# Altium footprint library MPXV1D1250.PcbLib: 1 footprints
Each footprint in its own frame and in the unit in brackets; x right, y up, seen from the top. Pads: shape width x height; smd on the part's side, far side on the other; paste and mask are expansions set on the pad; w line width, h text height; cw(c..) or ccw(c..) is an arc to the next point about the centre after c.
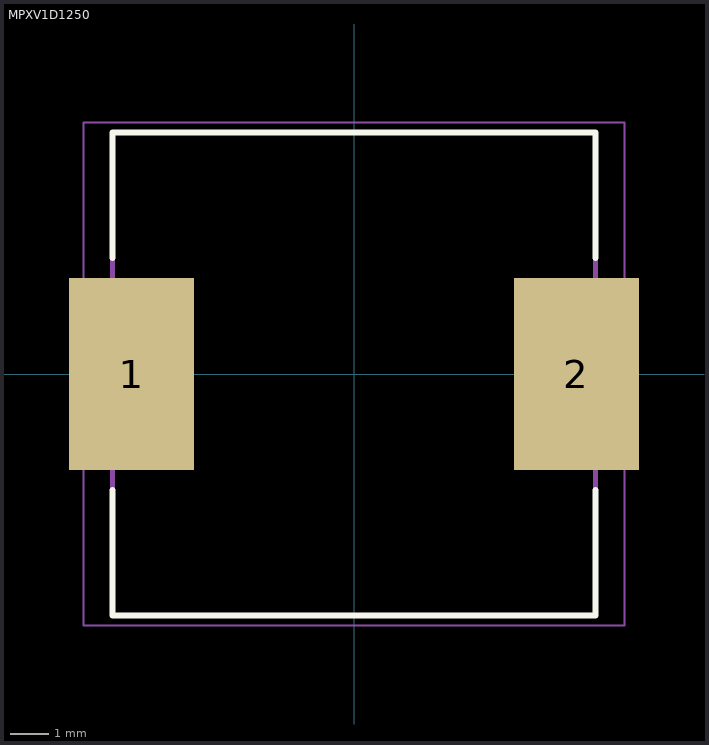
[diagram p0: the footprint, top view; thin cyan lines are the x and y axes]

## MPXV1D1250 [mil]
pads (2):
  rect 127.01x195 smd: 1(-226.5,0) 2(226.5,0)
Top Overlay:
  lines w5.91: -246.06,-118.11 -246.06,-246.06 246.06,-246.06 246.06,-118.11 ; -246.06,118.11 -246.06,245 ; -246.06,246.06 246.06,246.06 ; 246.06,118.11 246.06,245
Mechanical 13:
  lines w5: -246.06,-246.06 -246.06,246.06 246.06,246.06 246.06,223.35 246.06,-246.06 -246.06,-246.06
Mechanical 15:
  lines w1.97: -275.59,-255.91 -275.59,255.91 275.59,255.91 275.59,-255.91 -275.59,-255.91
3D body "MPXV1D1250L150.stp": height 199.24, standoff 0, extent -267.72,-250 267.72,250